# Altium footprint library conn_pld.PcbLib: 25 footprints (part 2 of 2)
Each footprint in its own frame and in the unit in brackets; x right, y up, seen from the top. Pads: shape width x height; smd on the part's side, far side on the other; paste and mask are expansions set on the pad; w line width, h text height; cw(c..) or ccw(c..) is an arc to the next point about the centre after c.
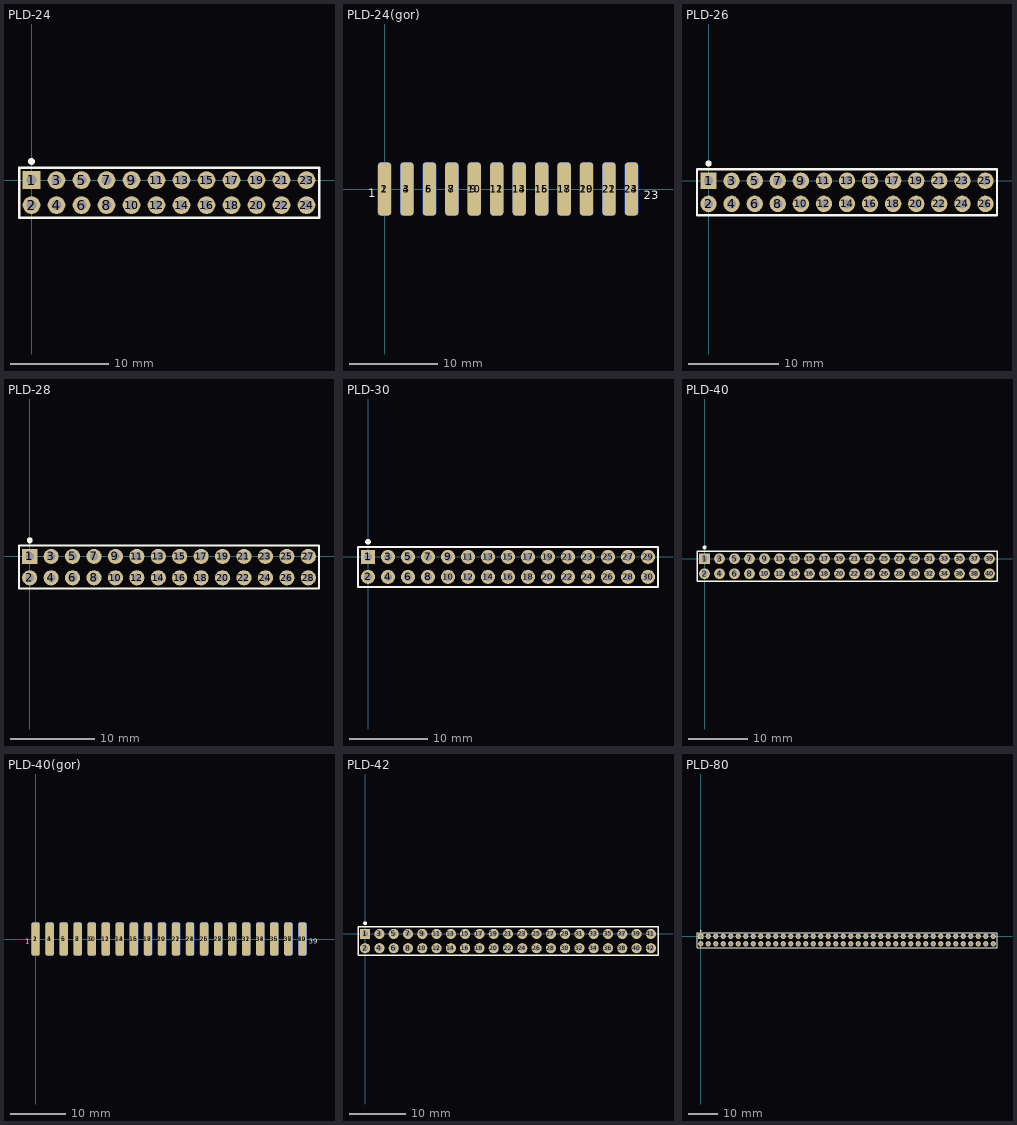
[diagram p1: the footprints below, top view; thin cyan lines are the x and y axes]

## PLD-24 [mm]
pads (24):
  rect 1.8x1.8 hole 1: 1(0,0)
  round 1.8 hole 1: 2(0,-2.54) 3(2.54,0) 4(2.54,-2.54) 5(5.08,0) 6(5.08,-2.54) 7(7.62,0) 8(7.62,-2.54) 9(10.16,0) 10(10.16,-2.54) 11(12.7,0) 12(12.7,-2.54) 13(15.24,0) 14(15.24,-2.54) 15(17.78,0) 16(17.78,-2.54) 17(20.32,0) 18(20.32,-2.54) 19(22.86,0) 20(22.86,-2.54) 21(25.4,0) 22(25.4,-2.54) 23(27.94,0) 24(27.94,-2.54)
Top Overlay:
  circle w0.5: c0,1.9 r0.1
  lines w0.254: -1.27,-3.81 29.21,-3.81 29.21,1.27 -1.27,1.27 -1.27,-3.81
3D body "PLD-2.step": height 8.44, standoff -3, extent 26.67,-3.81 29.21,1.27
3D body "PLD-2.step": height 8.44, standoff -3, extent 24.13,-3.81 26.67,1.27
3D body "PLD-2.step": height 8.44, standoff -3, extent 21.59,-3.81 24.13,1.27
3D body "PLD-2.step": height 8.44, standoff -3, extent 19.05,-3.81 21.59,1.27
3D body "PLD-2.step": height 8.44, standoff -3, extent 16.51,-3.81 19.05,1.27
3D body "PLD-2.step": height 8.44, standoff -3, extent 13.97,-3.81 16.51,1.27
3D body "PLD-2.step": height 8.44, standoff -3, extent 6.35,-3.81 8.89,1.27
3D body "PLD-2.step": height 8.44, standoff -3, extent 3.81,-3.81 6.35,1.27
3D body "PLD-2.step": height 8.44, standoff -3, extent 1.27,-3.81 3.81,1.27
3D body "PLD-2.step": height 8.44, standoff -3, extent -1.27,-3.81 1.27,1.27
3D body "PLD-2.step": height 8.44, standoff -3, extent 8.89,-3.81 11.43,1.27
3D body "PLD-2.step": height 8.44, standoff -3, extent 11.43,-3.81 13.97,1.27

## PLD-24(gor) [mm]
pads (24):
  rrect50% 1.5x6 smd: 1(0,0) 3(2.54,0) 5(5.08,0) 7(7.62,0) 9(10.16,0) 11(12.7,0) 13(15.24,0) 15(17.78,0) 17(20.32,0) 19(22.86,0) 21(25.4,0) 23(27.94,0)
  rrect50% 1.5x6 smd far side: 2(0,0) 4(2.54,0) 6(5.08,0) 8(7.62,0) 10(10.16,0) 12(12.7,0) 14(15.24,0) 16(17.78,0) 18(20.32,0) 20(22.86,0) 22(25.4,0) 24(27.94,0)
Top Overlay:
  text "23" at 29.312,-1.473 h1.6
  text "1" at -1.829,-1.245 h1.6
Bottom Overlay:
  text "24" at 30.861,-1.473 h1.6
  text "2" at -1.168,-1.27 h1.6
3D body "PLD-2.step": height 1.69, standoff -3.39, extent 26.67,-0.16 29.21,11.28
3D body "PLD-2.step": height 1.69, standoff -3.39, extent 24.13,-0.16 26.67,11.28
3D body "PLD-2.step": height 1.69, standoff -3.39, extent 11.43,-0.16 13.97,11.28
3D body "PLD-2.step": height 1.69, standoff -3.39, extent 8.89,-0.16 11.43,11.28
3D body "PLD-2.step": height 1.69, standoff -3.39, extent -1.27,-0.16 1.27,11.28
3D body "PLD-2.step": height 1.69, standoff -3.39, extent 1.27,-0.16 3.81,11.28
3D body "PLD-2.step": height 1.69, standoff -3.39, extent 3.81,-0.16 6.35,11.28
3D body "PLD-2.step": height 1.69, standoff -3.39, extent 6.35,-0.16 8.89,11.28
3D body "PLD-2.step": height 1.69, standoff -3.39, extent 13.97,-0.16 16.51,11.28
3D body "PLD-2.step": height 1.69, standoff -3.39, extent 16.51,-0.16 19.05,11.28
3D body "PLD-2.step": height 1.69, standoff -3.39, extent 19.05,-0.16 21.59,11.28
3D body "PLD-2.step": height 1.69, standoff -3.39, extent 21.59,-0.16 24.13,11.28

## PLD-26 [mm]
pads (26):
  rect 1.8x1.8 hole 1: 1(0,0)
  round 1.8 hole 1: 2(0,-2.54) 3(2.54,0) 4(2.54,-2.54) 5(5.08,0) 6(5.08,-2.54) 7(7.62,0) 8(7.62,-2.54) 9(10.16,0) 10(10.16,-2.54) 11(12.7,0) 12(12.7,-2.54) 13(15.24,0) 14(15.24,-2.54) 15(17.78,0) 16(17.78,-2.54) 17(20.32,0) 18(20.32,-2.54) 19(22.86,0) 20(22.86,-2.54) 21(25.4,0) 22(25.4,-2.54) 23(27.94,0) 24(27.94,-2.54) 25(30.48,0) 26(30.48,-2.54)
Top Overlay:
  circle w0.5: c0,1.9 r0.1
  lines w0.254: -1.27,-3.81 -1.27,1.27 31.75,1.27 31.75,-3.81 -1.27,-3.81
3D body "PLD-2.step": height 8.44, standoff -3, extent 29.21,-3.81 31.75,1.27
3D body "PLD-2.step": height 8.44, standoff -3, extent 11.43,-3.81 13.97,1.27
3D body "PLD-2.step": height 8.44, standoff -3, extent 8.89,-3.81 11.43,1.27
3D body "PLD-2.step": height 8.44, standoff -3, extent -1.27,-3.81 1.27,1.27
3D body "PLD-2.step": height 8.44, standoff -3, extent 1.27,-3.81 3.81,1.27
3D body "PLD-2.step": height 8.44, standoff -3, extent 3.81,-3.81 6.35,1.27
3D body "PLD-2.step": height 8.44, standoff -3, extent 6.35,-3.81 8.89,1.27
3D body "PLD-2.step": height 8.44, standoff -3, extent 13.97,-3.81 16.51,1.27
3D body "PLD-2.step": height 8.44, standoff -3, extent 16.51,-3.81 19.05,1.27
3D body "PLD-2.step": height 8.44, standoff -3, extent 19.05,-3.81 21.59,1.27
3D body "PLD-2.step": height 8.44, standoff -3, extent 21.59,-3.81 24.13,1.27
3D body "PLD-2.step": height 8.44, standoff -3, extent 24.13,-3.81 26.67,1.27
3D body "PLD-2.step": height 8.44, standoff -3, extent 26.67,-3.81 29.21,1.27

## PLD-28 [mm]
pads (28):
  rect 1.8x1.8 hole 1: 1(0,0)
  round 1.8 hole 1: 2(0,-2.54) 3(2.54,0) 4(2.54,-2.54) 5(5.08,0) 6(5.08,-2.54) 7(7.62,0) 8(7.62,-2.54) 9(10.16,0) 10(10.16,-2.54) 11(12.7,0) 12(12.7,-2.54) 13(15.24,0) 14(15.24,-2.54) 15(17.78,0) 16(17.78,-2.54) 17(20.32,0) 18(20.32,-2.54) 19(22.86,0) 20(22.86,-2.54) 21(25.4,0) 22(25.4,-2.54) 23(27.94,0) 24(27.94,-2.54) 25(30.48,0) 26(30.48,-2.54) 27(33.02,0) 28(33.02,-2.54)
Top Overlay:
  circle w0.5: c0,1.9 r0.1
  lines w0.254: -1.27,-3.81 34.29,-3.81 34.29,1.27 -1.27,1.27 -1.27,-3.81
3D body "PLD-2.step": height 8.44, standoff -3, extent 26.67,-3.81 29.21,1.27
3D body "PLD-2.step": height 8.44, standoff -3, extent 24.13,-3.81 26.67,1.27
3D body "PLD-2.step": height 8.44, standoff -3, extent 21.59,-3.81 24.13,1.27
3D body "PLD-2.step": height 8.44, standoff -3, extent 19.05,-3.81 21.59,1.27
3D body "PLD-2.step": height 8.44, standoff -3, extent 16.51,-3.81 19.05,1.27
3D body "PLD-2.step": height 8.44, standoff -3, extent 13.97,-3.81 16.51,1.27
3D body "PLD-2.step": height 8.44, standoff -3, extent 6.35,-3.81 8.89,1.27
3D body "PLD-2.step": height 8.44, standoff -3, extent 3.81,-3.81 6.35,1.27
3D body "PLD-2.step": height 8.44, standoff -3, extent 1.27,-3.81 3.81,1.27
3D body "PLD-2.step": height 8.44, standoff -3, extent -1.27,-3.81 1.27,1.27
3D body "PLD-2.step": height 8.44, standoff -3, extent 8.89,-3.81 11.43,1.27
3D body "PLD-2.step": height 8.44, standoff -3, extent 11.43,-3.81 13.97,1.27
3D body "PLD-2.step": height 8.44, standoff -3, extent 29.21,-3.81 31.75,1.27
3D body "PLD-2.step": height 8.44, standoff -3, extent 31.75,-3.81 34.29,1.27

## PLD-30 [mm]
pads (30):
  rect 1.8x1.8 hole 1: 1(0,0)
  round 1.8 hole 1: 2(0,-2.54) 3(2.54,0) 4(2.54,-2.54) 5(5.08,0) 6(5.08,-2.54) 7(7.62,0) 8(7.62,-2.54) 9(10.16,0) 10(10.16,-2.54) 11(12.7,0) 12(12.7,-2.54) 13(15.24,0) 14(15.24,-2.54) 15(17.78,0) 16(17.78,-2.54) 17(20.32,0) 18(20.32,-2.54) 19(22.86,0) 20(22.86,-2.54) 21(25.4,0) 22(25.4,-2.54) 23(27.94,0) 24(27.94,-2.54) 25(30.48,0) 26(30.48,-2.54) 27(33.02,0) 28(33.02,-2.54) 29(35.56,0) 30(35.56,-2.54)
Top Overlay:
  circle w0.5: c0,1.9 r0.1
  lines w0.254: -1.27,-3.81 -1.27,1.27 36.83,1.27 36.83,-3.81 -1.27,-3.81
3D body "PLD-2.step": height 8.44, standoff -3, extent 34.29,-3.81 36.83,1.27
3D body "PLD-2.step": height 8.44, standoff -3, extent 31.75,-3.81 34.29,1.27
3D body "PLD-2.step": height 8.44, standoff -3, extent 29.21,-3.81 31.75,1.27
3D body "PLD-2.step": height 8.44, standoff -3, extent 11.43,-3.81 13.97,1.27
3D body "PLD-2.step": height 8.44, standoff -3, extent 8.89,-3.81 11.43,1.27
3D body "PLD-2.step": height 8.44, standoff -3, extent -1.27,-3.81 1.27,1.27
3D body "PLD-2.step": height 8.44, standoff -3, extent 1.27,-3.81 3.81,1.27
3D body "PLD-2.step": height 8.44, standoff -3, extent 3.81,-3.81 6.35,1.27
3D body "PLD-2.step": height 8.44, standoff -3, extent 6.35,-3.81 8.89,1.27
3D body "PLD-2.step": height 8.44, standoff -3, extent 13.97,-3.81 16.51,1.27
3D body "PLD-2.step": height 8.44, standoff -3, extent 16.51,-3.81 19.05,1.27
3D body "PLD-2.step": height 8.44, standoff -3, extent 19.05,-3.81 21.59,1.27
3D body "PLD-2.step": height 8.44, standoff -3, extent 21.59,-3.81 24.13,1.27
3D body "PLD-2.step": height 8.44, standoff -3, extent 24.13,-3.81 26.67,1.27
3D body "PLD-2.step": height 8.44, standoff -3, extent 26.67,-3.81 29.21,1.27

## PLD-40 [mm]
pads (40):
  rect 1.8x1.8 hole 1: 1(0,0)
  round 1.8 hole 1: 2(0,-2.54) 3(2.54,0) 4(2.54,-2.54) 5(5.08,0) 6(5.08,-2.54) 7(7.62,0) 8(7.62,-2.54) 9(10.16,0) 10(10.16,-2.54) 11(12.7,0) 12(12.7,-2.54) 13(15.24,0) 14(15.24,-2.54) 15(17.78,0) 16(17.78,-2.54) 17(20.32,0) 18(20.32,-2.54) 19(22.86,0) 20(22.86,-2.54) 21(25.4,0) 22(25.4,-2.54) 23(27.94,0) 24(27.94,-2.54) 25(30.48,0) 26(30.48,-2.54) 27(33.02,0) 28(33.02,-2.54) 29(35.56,0) 30(35.56,-2.54) 31(38.1,0) 32(38.1,-2.54) 33(40.64,0) 34(40.64,-2.54) 35(43.18,0) 36(43.18,-2.54) 37(45.72,0) 38(45.72,-2.54) 39(48.26,0) 40(48.26,-2.54)
Top Overlay:
  circle w0.5: c0,1.9 r0.1
  lines w0.254: -1.27,-3.81 49.53,-3.81 49.53,1.27 -1.27,1.27 -1.27,-3.81
3D body "PLD-2.step": height 8.44, standoff -3, extent 46.99,-3.81 49.53,1.27
3D body "PLD-2.step": height 8.44, standoff -3, extent 44.45,-3.81 46.99,1.27
3D body "PLD-2.step": height 8.44, standoff -3, extent 41.91,-3.81 44.45,1.27
3D body "PLD-2.step": height 8.44, standoff -3, extent 36.83,-3.81 39.37,1.27
3D body "PLD-2.step": height 8.44, standoff -3, extent 39.37,-3.81 41.91,1.27
3D body "PLD-2.step": height 8.44, standoff -3, extent 26.67,-3.81 29.21,1.27
3D body "PLD-2.step": height 8.44, standoff -3, extent 24.13,-3.81 26.67,1.27
3D body "PLD-2.step": height 8.44, standoff -3, extent 21.59,-3.81 24.13,1.27
3D body "PLD-2.step": height 8.44, standoff -3, extent 19.05,-3.81 21.59,1.27
3D body "PLD-2.step": height 8.44, standoff -3, extent 16.51,-3.81 19.05,1.27
3D body "PLD-2.step": height 8.44, standoff -3, extent 13.97,-3.81 16.51,1.27
3D body "PLD-2.step": height 8.44, standoff -3, extent 6.35,-3.81 8.89,1.27
3D body "PLD-2.step": height 8.44, standoff -3, extent 3.81,-3.81 6.35,1.27
3D body "PLD-2.step": height 8.44, standoff -3, extent 1.27,-3.81 3.81,1.27
3D body "PLD-2.step": height 8.44, standoff -3, extent -1.27,-3.81 1.27,1.27
3D body "PLD-2.step": height 8.44, standoff -3, extent 8.89,-3.81 11.43,1.27
3D body "PLD-2.step": height 8.44, standoff -3, extent 11.43,-3.81 13.97,1.27
3D body "PLD-2.step": height 8.44, standoff -3, extent 29.21,-3.81 31.75,1.27
3D body "PLD-2.step": height 8.44, standoff -3, extent 31.75,-3.81 34.29,1.27
3D body "PLD-2.step": height 8.44, standoff -3, extent 34.29,-3.81 36.83,1.27

## PLD-40(gor) [mm]
pads (40):
  rrect50% 1.5x6 smd: 1(0,0) 3(2.54,0) 5(5.08,0) 7(7.62,0) 9(10.16,0) 11(12.7,0) 13(15.24,0) 15(17.78,0) 17(20.32,0) 19(22.86,0) 21(25.4,0) 23(27.94,0) 25(30.48,0) 27(33.02,0) 29(35.56,0) 31(38.1,0) 33(40.64,0) 35(43.18,0) 37(45.72,0) 39(48.26,0)
  rrect50% 1.5x6 smd far side: 2(0,0) 4(2.54,0) 6(5.08,0) 8(7.62,0) 10(10.16,0) 12(12.7,0) 14(15.24,0) 16(17.78,0) 18(20.32,0) 20(22.86,0) 22(25.4,0) 24(27.94,0) 26(30.48,0) 28(33.02,0) 30(35.56,0) 32(38.1,0) 34(40.64,0) 36(43.18,0) 38(45.72,0) 40(48.26,0)
Top Overlay:
  text "1" at -1.829,-1.245 h1.6
  text "39" at 49.4,-1.261 h1.6
Bottom Overlay:
  text "2" at -1.168,-1.27 h1.6
  text "40" at 50.9,-1.261 h1.6
3D body "PLD-2.step": height 1.69, standoff -3.39, extent 21.59,-0.16 24.13,11.28
3D body "PLD-2.step": height 1.69, standoff -3.39, extent 19.05,-0.16 21.59,11.28
3D body "PLD-2.step": height 1.69, standoff -3.39, extent 16.51,-0.16 19.05,11.28
3D body "PLD-2.step": height 1.69, standoff -3.39, extent 13.97,-0.16 16.51,11.28
3D body "PLD-2.step": height 1.69, standoff -3.39, extent 6.35,-0.16 8.89,11.28
3D body "PLD-2.step": height 1.69, standoff -3.39, extent 3.81,-0.16 6.35,11.28
3D body "PLD-2.step": height 1.69, standoff -3.39, extent 1.27,-0.16 3.81,11.28
3D body "PLD-2.step": height 1.69, standoff -3.39, extent -1.27,-0.16 1.27,11.28
3D body "PLD-2.step": height 1.69, standoff -3.39, extent 8.89,-0.16 11.43,11.28
3D body "PLD-2.step": height 1.69, standoff -3.39, extent 11.43,-0.16 13.97,11.28
3D body "PLD-2.step": height 1.69, standoff -3.39, extent 24.13,-0.16 26.67,11.28
3D body "PLD-2.step": height 1.69, standoff -3.39, extent 26.67,-0.16 29.21,11.28
3D body "PLD-2.step": height 1.69, standoff -3.39, extent 29.21,-0.16 31.75,11.28
3D body "PLD-2.step": height 1.69, standoff -3.39, extent 31.75,-0.16 34.29,11.28
3D body "PLD-2.step": height 1.69, standoff -3.39, extent 34.29,-0.16 36.83,11.28
3D body "PLD-2.step": height 1.69, standoff -3.39, extent 36.83,-0.16 39.37,11.28
3D body "PLD-2.step": height 1.69, standoff -3.39, extent 39.37,-0.16 41.91,11.28
3D body "PLD-2.step": height 1.69, standoff -3.39, extent 41.91,-0.16 44.45,11.28
3D body "PLD-2.step": height 1.69, standoff -3.39, extent 44.45,-0.16 46.99,11.28
3D body "PLD-2.step": height 1.69, standoff -3.39, extent 46.99,-0.16 49.53,11.28

## PLD-42 [mm]
pads (42):
  rect 1.8x1.8 hole 1: 1(0,0)
  round 1.8 hole 1: 2(0,-2.54) 3(2.54,0) 4(2.54,-2.54) 5(5.08,0) 6(5.08,-2.54) 7(7.62,0) 8(7.62,-2.54) 9(10.16,0) 10(10.16,-2.54) 11(12.7,0) 12(12.7,-2.54) 13(15.24,0) 14(15.24,-2.54) 15(17.78,0) 16(17.78,-2.54) 17(20.32,0) 18(20.32,-2.54) 19(22.86,0) 20(22.86,-2.54) 21(25.4,0) 22(25.4,-2.54) 23(27.94,0) 24(27.94,-2.54) 25(30.48,0) 26(30.48,-2.54) 27(33.02,0) 28(33.02,-2.54) 29(35.56,0) 30(35.56,-2.54) 31(38.1,0) 32(38.1,-2.54) 33(40.64,0) 34(40.64,-2.54) 35(43.18,0) 36(43.18,-2.54) 37(45.72,0) 38(45.72,-2.54) 39(48.26,0) 40(48.26,-2.54) 41(50.8,0) 42(50.8,-2.54)
Top Overlay:
  circle w0.5: c0,1.9 r0.1
  lines w0.254: -1.27,-3.81 52.07,-3.81 52.07,1.27 -1.27,1.27 -1.27,-3.81
3D body "PLD-2.step": height 8.44, standoff -3, extent 46.99,-3.81 49.53,1.27
3D body "PLD-2.step": height 8.44, standoff -3, extent 44.45,-3.81 46.99,1.27
3D body "PLD-2.step": height 8.44, standoff -3, extent 41.91,-3.81 44.45,1.27
3D body "PLD-2.step": height 8.44, standoff -3, extent 36.83,-3.81 39.37,1.27
3D body "PLD-2.step": height 8.44, standoff -3, extent 39.37,-3.81 41.91,1.27
3D body "PLD-2.step": height 8.44, standoff -3, extent 26.67,-3.81 29.21,1.27
3D body "PLD-2.step": height 8.44, standoff -3, extent 24.13,-3.81 26.67,1.27
3D body "PLD-2.step": height 8.44, standoff -3, extent 21.59,-3.81 24.13,1.27
3D body "PLD-2.step": height 8.44, standoff -3, extent 19.05,-3.81 21.59,1.27
3D body "PLD-2.step": height 8.44, standoff -3, extent 16.51,-3.81 19.05,1.27
3D body "PLD-2.step": height 8.44, standoff -3, extent 13.97,-3.81 16.51,1.27
3D body "PLD-2.step": height 8.44, standoff -3, extent 6.35,-3.81 8.89,1.27
3D body "PLD-2.step": height 8.44, standoff -3, extent 3.81,-3.81 6.35,1.27
3D body "PLD-2.step": height 8.44, standoff -3, extent 1.27,-3.81 3.81,1.27
3D body "PLD-2.step": height 8.44, standoff -3, extent -1.27,-3.81 1.27,1.27
3D body "PLD-2.step": height 8.44, standoff -3, extent 8.89,-3.81 11.43,1.27
3D body "PLD-2.step": height 8.44, standoff -3, extent 11.43,-3.81 13.97,1.27
3D body "PLD-2.step": height 8.44, standoff -3, extent 29.21,-3.81 31.75,1.27
3D body "PLD-2.step": height 8.44, standoff -3, extent 31.75,-3.81 34.29,1.27
3D body "PLD-2.step": height 8.44, standoff -3, extent 34.29,-3.81 36.83,1.27
3D body "PLD-2.step": height 8.44, standoff -3, extent 49.53,-3.81 52.07,1.27

## PLD-80 [mm]
pads (80):
  rect 1.8x1.8 hole 1: 1(0,0)
  round 1.8 hole 1: 2(0,-2.54) 3(2.54,0) 4(2.54,-2.54) 5(5.08,0) 6(5.08,-2.54) 7(7.62,0) 8(7.62,-2.54) 9(10.16,0) 10(10.16,-2.54) 11(12.7,0) 12(12.7,-2.54) 13(15.24,0) 14(15.24,-2.54) 15(17.78,0) 16(17.78,-2.54) 17(20.32,0) 18(20.32,-2.54) 19(22.86,0) 20(22.86,-2.54) 21(25.4,0) 22(25.4,-2.54) 23(27.94,0) 24(27.94,-2.54) 25(30.48,0) 26(30.48,-2.54) 27(33.02,0) 28(33.02,-2.54) 29(35.56,0) 30(35.56,-2.54) 31(38.1,0) 32(38.1,-2.54) 33(40.64,0) 34(40.64,-2.54) 35(43.18,0) 36(43.18,-2.54) 37(45.72,0) 38(45.72,-2.54) 39(48.26,0) 40(48.26,-2.54) 41(50.8,0) 42(50.8,-2.54) 43(53.34,0) 44(53.34,-2.54) 45(55.88,0) 46(55.88,-2.54) 47(58.42,0) 48(58.42,-2.54) 49(60.96,0) 50(60.96,-2.54) 51(63.5,0) 52(63.5,-2.54) 53(66.04,0) 54(66.04,-2.54) 55(68.58,0) 56(68.58,-2.54) 57(71.12,0) 58(71.12,-2.54) 59(73.66,0) 60(73.66,-2.54) 61(76.2,0) 62(76.2,-2.54) 63(78.74,0) 64(78.74,-2.54) 65(81.28,0) 66(81.28,-2.54) 67(83.82,0) 68(83.82,-2.54) 69(86.36,0) 70(86.36,-2.54) 71(88.9,0) 72(88.9,-2.54) 73(91.44,0) 74(91.44,-2.54) 75(93.98,0) 76(93.98,-2.54) 77(96.52,0) 78(96.52,-2.54) 79(99.06,0) 80(99.06,-2.54)
Top Overlay:
  circle w0.5: c0,1.9 r0.1
  lines w0.254: -1.27,-3.81 -1.27,1.27 49.53,1.27 100.33,1.27 100.33,-3.81 49.53,-3.81 -1.27,-3.81
3D body "PLD-2.step": height 8.44, standoff -3, extent 34.29,-3.81 36.83,1.27
3D body "PLD-2.step": height 8.44, standoff -3, extent 31.75,-3.81 34.29,1.27
3D body "PLD-2.step": height 8.44, standoff -3, extent 29.21,-3.81 31.75,1.27
3D body "PLD-2.step": height 8.44, standoff -3, extent 11.43,-3.81 13.97,1.27
3D body "PLD-2.step": height 8.44, standoff -3, extent 8.89,-3.81 11.43,1.27
3D body "PLD-2.step": height 8.44, standoff -3, extent -1.27,-3.81 1.27,1.27
3D body "PLD-2.step": height 8.44, standoff -3, extent 1.27,-3.81 3.81,1.27
3D body "PLD-2.step": height 8.44, standoff -3, extent 3.81,-3.81 6.35,1.27
3D body "PLD-2.step": height 8.44, standoff -3, extent 6.35,-3.81 8.89,1.27
3D body "PLD-2.step": height 8.44, standoff -3, extent 13.97,-3.81 16.51,1.27
3D body "PLD-2.step": height 8.44, standoff -3, extent 16.51,-3.81 19.05,1.27
3D body "PLD-2.step": height 8.44, standoff -3, extent 19.05,-3.81 21.59,1.27
3D body "PLD-2.step": height 8.44, standoff -3, extent 21.59,-3.81 24.13,1.27
3D body "PLD-2.step": height 8.44, standoff -3, extent 24.13,-3.81 26.67,1.27
3D body "PLD-2.step": height 8.44, standoff -3, extent 26.67,-3.81 29.21,1.27
3D body "PLD-2.step": height 8.44, standoff -3, extent 39.37,-3.81 41.91,1.27
3D body "PLD-2.step": height 8.44, standoff -3, extent 36.83,-3.81 39.37,1.27
3D body "PLD-2.step": height 8.44, standoff -3, extent 41.91,-3.81 44.45,1.27
3D body "PLD-2.step": height 8.44, standoff -3, extent 44.45,-3.81 46.99,1.27
3D body "PLD-2.step": height 8.44, standoff -3, extent 46.99,-3.81 49.53,1.27
3D body "PLD-2.step": height 8.44, standoff -3, extent 97.79,-3.81 100.33,1.27
3D body "PLD-2.step": height 8.44, standoff -3, extent 95.25,-3.81 97.79,1.27
3D body "PLD-2.step": height 8.44, standoff -3, extent 92.71,-3.81 95.25,1.27
3D body "PLD-2.step": height 8.44, standoff -3, extent 87.63,-3.81 90.17,1.27
3D body "PLD-2.step": height 8.44, standoff -3, extent 90.17,-3.81 92.71,1.27
3D body "PLD-2.step": height 8.44, standoff -3, extent 77.47,-3.81 80.01,1.27
3D body "PLD-2.step": height 8.44, standoff -3, extent 74.93,-3.81 77.47,1.27
3D body "PLD-2.step": height 8.44, standoff -3, extent 72.39,-3.81 74.93,1.27
3D body "PLD-2.step": height 8.44, standoff -3, extent 69.85,-3.81 72.39,1.27
3D body "PLD-2.step": height 8.44, standoff -3, extent 67.31,-3.81 69.85,1.27
3D body "PLD-2.step": height 8.44, standoff -3, extent 64.77,-3.81 67.31,1.27
3D body "PLD-2.step": height 8.44, standoff -3, extent 57.15,-3.81 59.69,1.27
3D body "PLD-2.step": height 8.44, standoff -3, extent 54.61,-3.81 57.15,1.27
3D body "PLD-2.step": height 8.44, standoff -3, extent 52.07,-3.81 54.61,1.27
3D body "PLD-2.step": height 8.44, standoff -3, extent 49.53,-3.81 52.07,1.27
3D body "PLD-2.step": height 8.44, standoff -3, extent 59.69,-3.81 62.23,1.27
3D body "PLD-2.step": height 8.44, standoff -3, extent 62.23,-3.81 64.77,1.27
3D body "PLD-2.step": height 8.44, standoff -3, extent 80.01,-3.81 82.55,1.27
3D body "PLD-2.step": height 8.44, standoff -3, extent 82.55,-3.81 85.09,1.27
3D body "PLD-2.step": height 8.44, standoff -3, extent 85.09,-3.81 87.63,1.27